# Altium schematic symbol library muRata.SchLib: 1 symbol
Pins are listed as number, name and electrical type; pins without a type are passive.

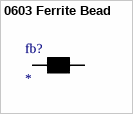
[diagram p0: symbol 0603 Ferrite Bead]

## 0603 Ferrite Bead
designator fb?
footprint 0603 (Generic package)
pins: 1, 2